# EAGLE library part LT1161 (library crw)
Single-Supply 16-Bit Stereo ADC Source: http://www.analog.com/static/imported-files/data_sheets/AD1877.pdf
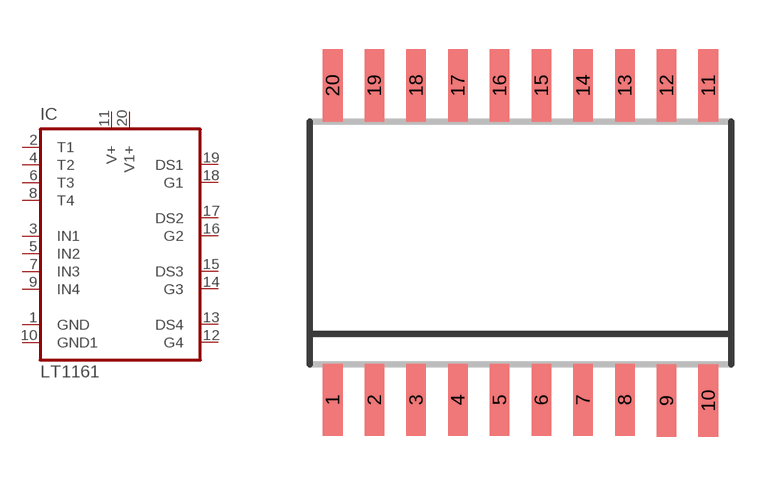
[diagram p0: symbol with the pads of SOIC20R; footprint SOIC20R]

Designator prefix IC

## LT1161  [SOIC20R]
1  GND  in
2  T1
3  IN1  in
4  T2
5  IN2  in
6  T3
7  IN3  in
8  T4  in
9  IN4  in
10  GND1  in
11  V+  in
12  G4  out
13  DS4  out
14  G3  in
15  DS3  out
16  G2  out
17  DS2  in
18  G1  out
19  DS1  out
20  V1+  in

## Footprint SOIC20R (pad centres in mm)
20-LeadStandard Small Outline Package SOIC Wide Body (R-20) Source: http://www.analog.com/static/imported-files/data_sheets/AD811.pdf
smd 0.6 x 2.2: 1 -5.715,-4.775; 2 -4.445,-4.775; 3 -3.175,-4.775; 4 -1.905,-4.775; 5 -0.635,-4.775; 6 0.635,-4.775; 7 1.905,-4.775; 8 3.175,-4.775; 9 4.445,-4.8; 10 5.715,-4.8; 11 5.715,4.8; 12 4.445,4.8; 13 3.175,4.8; 14 1.905,4.8; 15 0.635,4.8; 16 -0.635,4.8; 17 -1.905,4.8; 18 -3.175,4.8; 19 -4.445,4.8; 20 -5.715,4.8